# Altium schematic symbol library BSS84LT1G.Schlib: 1 symbol
Pins are listed as number, name and electrical type; pins without a type are passive.

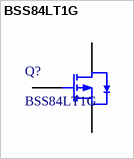
[diagram p0: symbol BSS84LT1G]

## BSS84LT1G
designator Q?
MOS(场效应管)
footprint SOT-23(SOT-23-3)
pins: 1 G, 2 S, 3 D